# EAGLE library part SI3210 (library SilabsProSLIC)
Si3210 ProSLIC® IC Silicon Labs Si3210 ProSLIC® IC
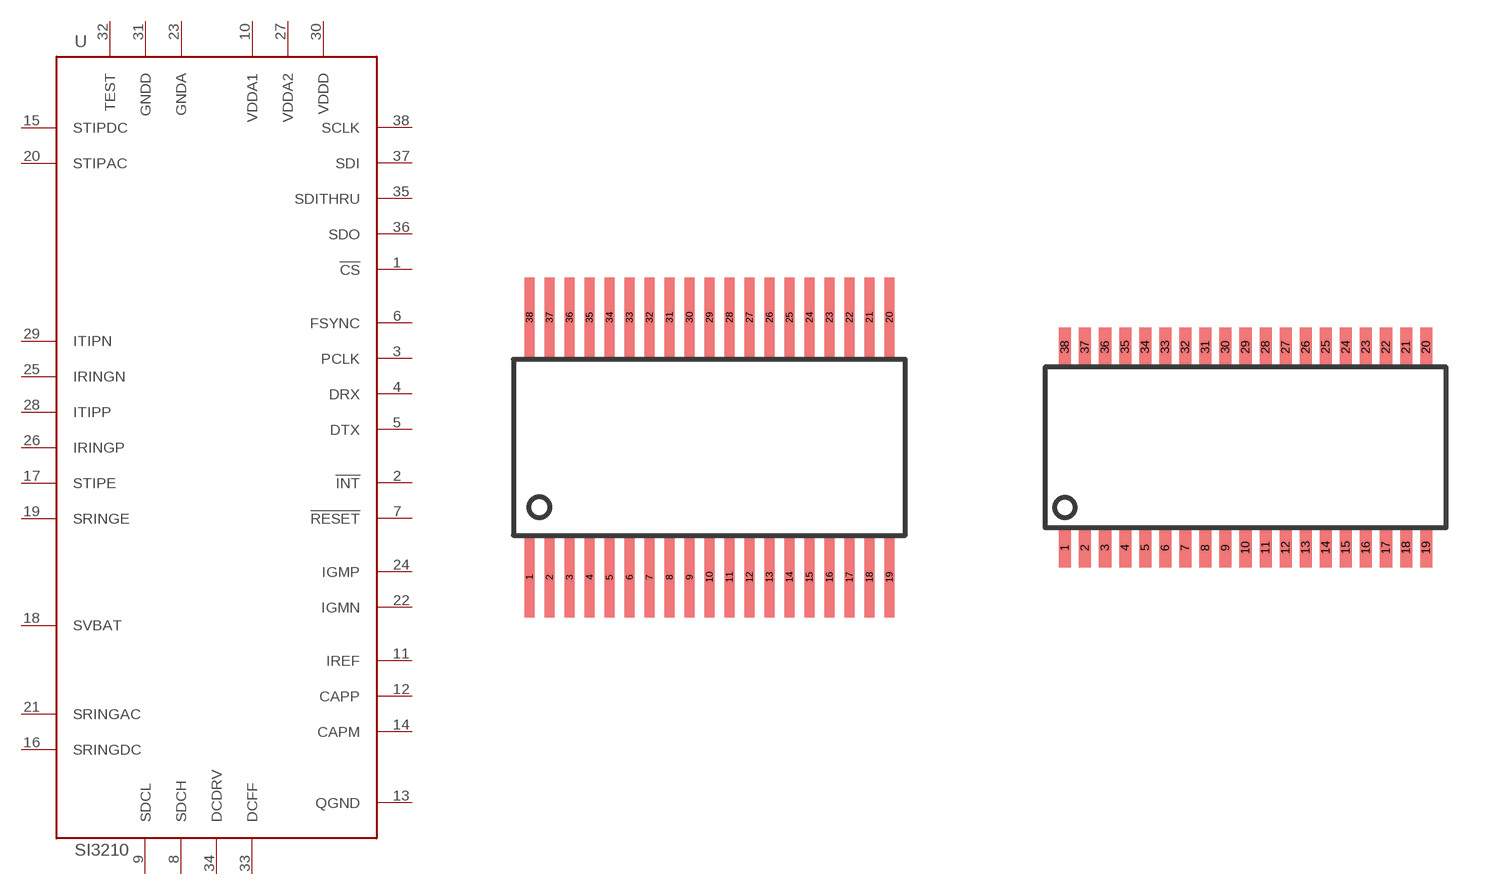
[diagram p0: symbol with the pads of TSSOP38-LP; footprints TSSOP38-LP, TSSOP38]

Designator prefix -

## SI3210-FT(LP) (DC-DC_TYPE: BJT; ROHS: YES)  [TSSOP38-LP]
1  !CS  in
2  !INT  out
3  PCLK  in
4  DRX  in
5  DTX  out
6  FSYNC  in
7  !RESET  in
8  SDCH  pwr
9  SDCL  pwr
10  VDDA1  pwr
11  IREF  pwr
12  CAPP  pwr
13  QGND  pwr
14  CAPM  pwr
15  STIPDC  out
16  SRINGDC  out
17  STIPE  out
18  SVBAT  out
19  SRINGE  out
20  STIPAC  out
21  SRINGAC  out
22  IGMN  pwr
23  GNDA  pwr
24  IGMP  pwr
25  IRINGN  out
26  IRINGP  out
27  VDDA2  pwr
28  ITIPP  out
29  ITIPN  out
30  VDDD  pwr
31  GNDD  pwr
32  TEST  pwr
33  DCFF  pwr
34  DCDRV  pwr
35  SDITHRU  out
36  SDO  out
37  SDI  in
38  SCLK  in

## SI3210-GT(LP) (DC-DC_TYPE: BJT; ROHS: YES)  [TSSOP38-LP]
Pads as for TSSOP38-LP

## SI3210-FT (DC-DC_TYPE: BJT; ROHS: YES)  [TSSOP38]
Pads as for TSSOP38-LP

## SI3210-GT (DC-DC_TYPE: BJT; ROHS: YES)  [TSSOP38]
Pads as for TSSOP38-LP

## Footprint TSSOP38-LP (pad centres in mm)
38-pin Thin Shrink Small Outline Package - Long Pads This version of TSSOP38 has long SMD pads, suitable for hand-soldering.
smd 0.25 x 2: 1 -4.5,-3.25; 2 -4,-3.25; 3 -3.5,-3.25; 4 -3,-3.25; 5 -2.5,-3.25; 6 -2,-3.25; 7 -1.5,-3.25; 8 -1,-3.25; 9 -0.5,-3.25; 10 0,-3.25; 11 0.5,-3.25; 12 1,-3.25; 13 1.5,-3.25; 14 2,-3.25; 15 2.5,-3.25; 16 3,-3.25; 17 3.5,-3.25; 18 4,-3.25; 19 4.5,-3.25; 20 4.5,3.25; 21 4,3.25; 22 3.5,3.25; 23 3,3.25; 24 2.5,3.25; 25 2,3.25; 26 1.5,3.25; 27 1,3.25; 28 0.5,3.25; 29 0,3.25; 30 -0.5,3.25; 31 -1,3.25; 32 -1.5,3.25; 33 -2,3.25; 34 -2.5,3.25; 35 -3,3.25; 36 -3.5,3.25; 37 -4,3.25; 38 -4.5,3.25

## Footprint TSSOP38 (pad centres in mm)
38-pin Thin Shrink Small Outline Package
smd 0.305 x 0.991: 1 -4.572,-2.54; 2 -4.064,-2.54; 3 -3.556,-2.54; 4 -3.048,-2.54; 5 -2.54,-2.54; 6 -2.032,-2.54; 7 -1.524,-2.54; 8 -1.016,-2.54; 9 -0.508,-2.54; 10 0,-2.54; 11 0.508,-2.54; 12 1.016,-2.54; 13 1.524,-2.54; 14 2.032,-2.54; 15 2.54,-2.54; 16 3.048,-2.54; 17 3.556,-2.54; 18 4.064,-2.54; 19 4.572,-2.54; 20 4.572,2.54; 21 4.064,2.54; 22 3.556,2.54; 23 3.048,2.54; 24 2.54,2.54; 25 2.032,2.54; 26 1.524,2.54; 27 1.016,2.54; 28 0.508,2.54; 29 0,2.54; 30 -0.508,2.54; 31 -1.016,2.54; 32 -1.524,2.54; 33 -2.032,2.54; 34 -2.54,2.54; 35 -3.048,2.54; 36 -3.556,2.54; 37 -4.064,2.54; 38 -4.572,2.54